# Altium integrated library myself_Library.IntLib: 1 symbol
Pins are listed as number, name and electrical type; pins without a type are passive.

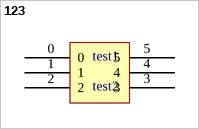
[diagram p0: symbol 123]

## 123
designator test1, comment test2
footprint test
pins: 0, 1, 2, 3, 4, 5